# Altium schematic symbol library MCP3221A5T-I_OT.SchLib: 1 symbol
Pins are listed as number, name and electrical type; pins without a type are passive.

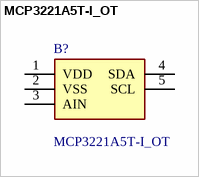
[diagram p0: symbol MCP3221A5T-I_OT]

## MCP3221A5T-I_OT
designator B?
A/D Converter; Manufacturer_Name: Microchip; Manufacturer_Part_Number: MCP3221A5T-I/OT; Geometry.Height: 1.45mm; Mouser Part Number: 579-MCP3221A5T-I/OT; Mouser Price/Stock: https://www.mouser.co.uk/ProductDetail/Microchip-Technology/MCP3221A5T-I-OT?qs=WWgnj3qycfluQW8d2QZbkA%3D%3D; Datasheet Link: http://componentsearchengine.com/Datasheets/1/MCP3221A5T-I_OT.pdf
footprint SOT95P280X145-5N
pins: 1 VDD, 2 VSS, 3 AIN, 4 SDA, 5 SCL